# EAGLE library part VICOR_CHIP_WITH_HEATSINK (library DCDCDC)
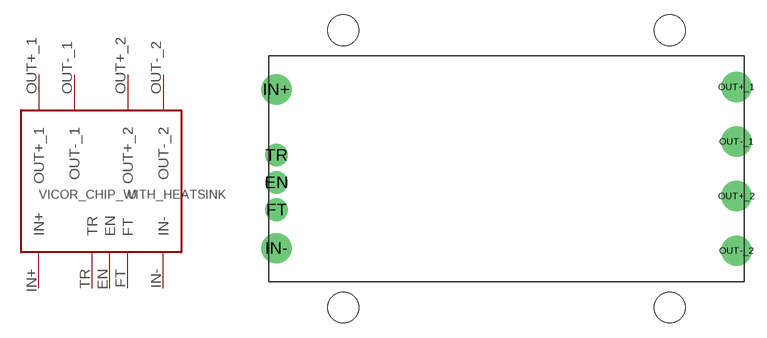
[diagram p0: symbol with the pads of VICOR_CHIP_HEATSINK; footprint VICOR_CHIP_HEATSINK]

Designator prefix -

## VICOR_CHIP_WITH_HEATSINK  [VICOR_CHIP_HEATSINK]
EN  EN
FT  FT
IN+  IN+
IN-  IN-
OUT+_1  OUT+_1
OUT+_2  OUT+_2
OUT-_1  OUT-_1
OUT-_2  OUT-_2
TR  TR

## Footprint VICOR_CHIP_HEATSINK (pad centres in mm)
drill 1.52 pad 1.77: EN -23.19,-1.38; FT -23.19,-4.13; TR -23.19,1.38
drill 2.03 pad 2.28: IN+ -23.19,8; IN- -23.19,-8
drill 2.03 pad 2.41: OUT+_1 23.19,8.25; OUT+_2 23.19,-2.75; OUT-_1 23.19,2.75; OUT-_2 23.19,-8.25
hole 3.1 at -16.47,13.97
hole 3.1 at -16.47,-13.97
hole 3.1 at 16.47,13.97
hole 3.1 at 16.47,-13.97